# Altium schematic symbol library lmx2572.SchLib: 5 symbols
Pins are listed as number, name and electrical type; pins without a type are passive.

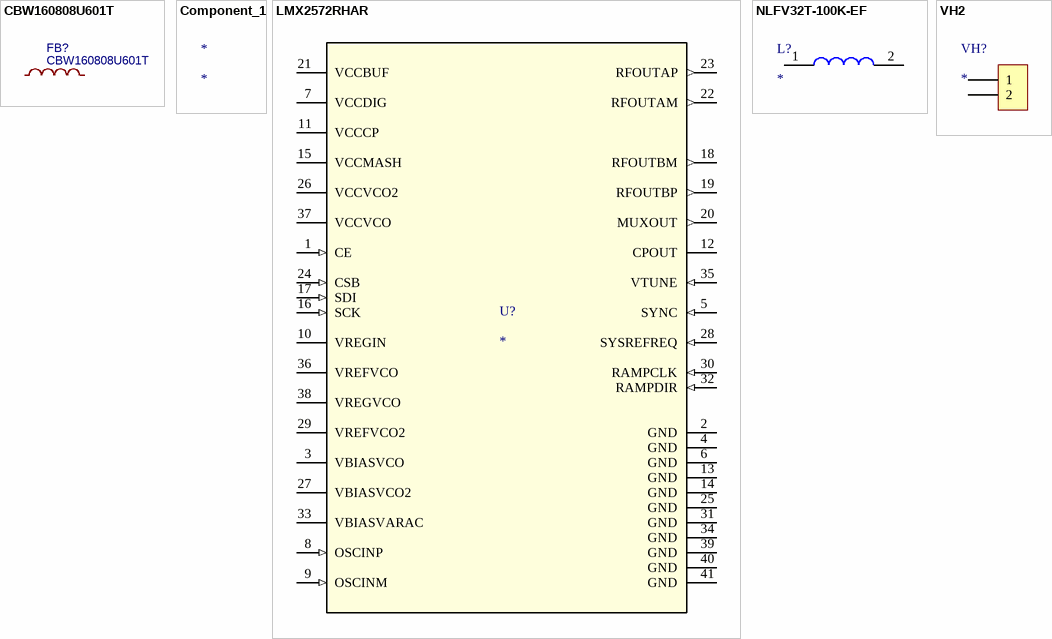
[diagram p0: symbols CBW160808U601T to VH2]

## CBW160808U601T
designator FB?
BOM_Manufacturer: FH; nameAlias: Value; Contributor: LCSC; BOM_Supplier: LCSC; BOM_Manufacturer Part: CBW160808U601T; BOM_Supplier Part: C139183; BOM_JLCPCB Part Class: Extended Part; spicePre: L; spiceSymbolName: CBW160808U601T
footprint L0603
footprint CBW160808U601T (Footprint not found)
pins: 1, 2

## Component_1
designator *

## LMX2572RHAR
designator U?
No Description Available; Manufacturer: Texas Instruments; PartNumber: LMX2572RHAR; RefDes: RefDes; Type: DEV; Value: Value; Copyright: Copyright (C) 2018 Accelerated Designs. All rights reserved
footprint RHA0040H
footprint RHA0040H
pins: 1 CE (in), 2 GND (power), 3 VBIASVCO (power), 4 GND (power), 5 SYNC (in), 6 GND (power), 7 VCCDIG (power), 8 OSCINP (in), 9 OSCINM (in), 10 VREGIN (power), 11 VCCCP (power), 12 CPOUT, 13 GND (power), 14 GND (power), 15 VCCMASH (power), 16 SCK (in), 17 SDI (in), 18 RFOUTBM (out), 19 RFOUTBP (out), 20 MUXOUT (out), 21 VCCBUF (power), 22 RFOUTAM (out), 23 RFOUTAP (out), 24 CSB (in), 25 GND (power), 26 VCCVCO2 (power), 27 VBIASVCO2 (power), 28 SYSREFREQ (in), 29 VREFVCO2 (power), 30 RAMPCLK (in), 31 GND (power), 32 RAMPDIR (in), 33 VBIASVARAC (power), 34 GND (power), 35 VTUNE (in), 36 VREFVCO (power), 37 VCCVCO (power), 38 VREGVCO (power), 39 GND (power), 40 GND (power), 41 GND (power)

## NLFV32T-100K-EF
designator L?
Inductor; Manufacturer_Name: TDK; Manufacturer_Part_Number: NLFV32T-100K-EF; Datasheet Link: https://componentsearchengine.com/Datasheets/2/NLFV32T-100K-EF.pdf; Height: 2.4mm
footprint INDPM3225X240N
pins: 1, 2

## VH2
designator VH?
footprint VH3.96-2A
footprint VH3.96-2AW
footprint VH3.96-2AWD
pins: 1, 2